# Altium schematic symbol library HD2.SchLib: 89 symbols
Pins are listed as number, name and electrical type; pins without a type are passive.

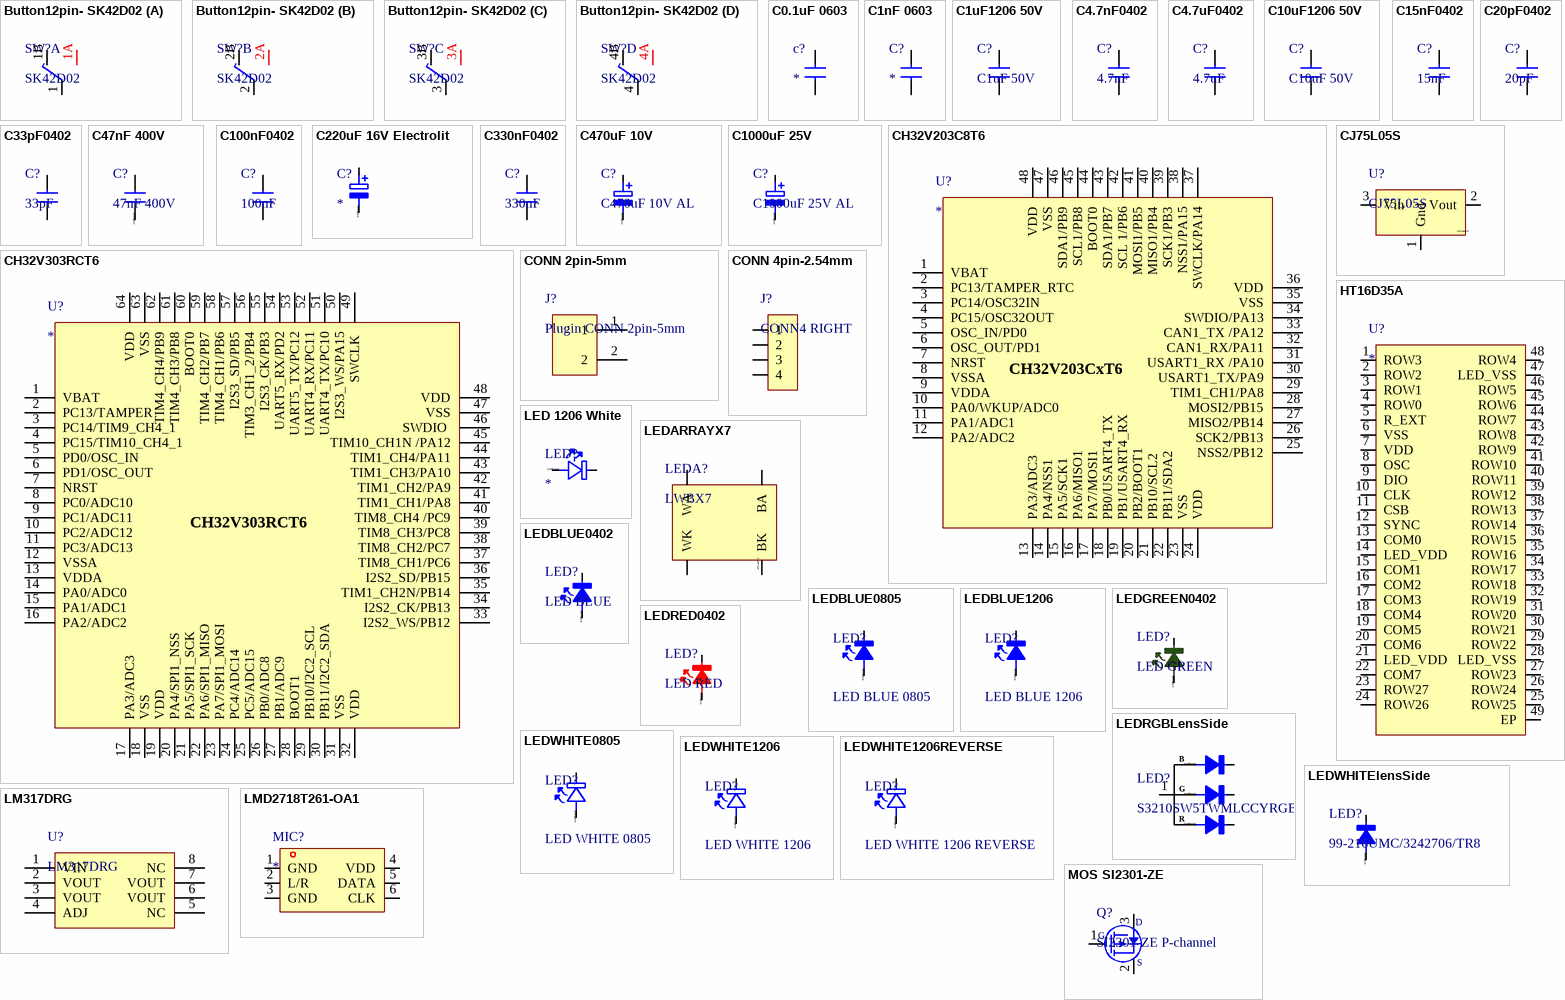
[diagram p0: symbols Button12pin- SK42D02 to MOS SI2301-ZE]

## Button12pin- SK42D02
designator SW?, comment SK42D02
footprint Button12PIN
part A pins: 1, 1A, 1B
part B pins: 2, 2A, 2B
part C pins: 3, 3A, 3B
part D pins: 4, 4A, 4B

## C0.1uF 0603
designator c?
footprint 0603
pins: 1, 2

## C1nF 0603
designator C?
MFAC: 0603B102K500NT; DES: 50V 1nF X7R ±10% 0603 Multilayer Ceramic Capacitors MLCC - SMD/SMT ROHS; JLC: C44369
footprint 0603
pins: 1, 2

## C1uF1206 50V
designator C?, comment C1uF 50V
MFAC: CL31B105KBHNNNE; DES: 50V 1uF X7R ±10% 1206 Multilayer Ceramic Capacitors MLCC - SMD/SMT ROHS Copy; JLC: C1848
footprint 1206
pins: 1, 2

## C4.7nF0402
designator C?, comment 4.7nF
MFAC: 0402B472K500CT; DES: 50V 4.7nF X7R ±10% 0402 Multilayer Ceramic Capacitors MLCC - SMD/SMT ROHS Copy; JLC: C237221
footprint 0402
pins: 1, 2

## C4.7uF0402
designator C?, comment 4.7uF
MFAC: 0402X475K6R3NT; DES: 6.3V 4.7uF X5R ±10% 0402 Multilayer Ceramic Capacitors MLCC - SMD/SMT ROHS; JLC: C157354
footprint 0402
pins: 1, 2

## C10uF1206 50V
designator C?, comment C10uF 50V
MFAC: CL31A106KBHNNNE; DES: 50V 10uF X5R ±10% 1206 Multilayer Ceramic Capacitors MLCC - SMD/SMT ROHS; JLC: C13585
footprint 1206
pins: 1, 2

## C15nF0402
designator C?, comment 15nF
MFAC: CC0402KRX7R9BB153; DES: 50V 15nF X7R ±10% 0402 Multilayer Ceramic Capacitors MLCC - SMD/SMT ROHS; JLC: C114405
footprint 0402
pins: 1, 2

## C20pF0402
designator C?, comment 20pF
MFAC: 0402CG200J500NT; DES: 50V 20pF C0G ±5% 0402 Multilayer Ceramic Capacitors MLCC - SMD/SMT ROHS; JLC: C1554
footprint 0402
pins: 1, 2

## C33pF0402
designator C?, comment 33pF
MFAC: 0402CG330J500NT; DES: 50V 33pF C0G ±5% 0402 Multilayer Ceramic Capacitors MLCC - SMD/SMT ROHS; JLC: C1562
footprint 0402
pins: 1, 2

## C47nF 400V
designator C?, comment 47nF 400V
MFAC: MPP473J2G10NN22610; JLC: C506852
footprint CAP_TH_10mm
pins: 1, 2
text: @DesignPCB

## C100nF0402
designator C?, comment 100nF
MFAC: CL05B104KO5NNNC; DES: 16V 100nF X7R ±10% 0402 Multilayer Ceramic Capacitors MLCC - SMD/SMT ROHS Copy; JLC: C1525
footprint 0402
pins: 1, 2

## C220uF 16V Electrolit
designator C?
MFAC: RVT1C221M0605; JLC: C2977551
footprint CAP-SMD_BD6.3-L6.6-W6.6-LS7.2-R-RD
pins: 1, 2
text: @DesignPCB

## C330nF0402
designator C?, comment 330nF
MFAC: 0402B334K160NT; DES: 16V 330nF X7R ±10% 0402  Multilayer Ceramic Capacitors MLCC - SMD/SMT ROHS; JLC: C301942
footprint 0402
pins: 1, 2

## C470uF 10V
designator C?, comment C470uF 10V AL
MFAC: 126RV0010; DES: 470uF 16V 175mA@120Hz ±20% SMD,D6.3xL7.7mm  Aluminum Electrolytic Capacitors - SMD ROHS; JLC: C5354997
footprint SMD,D6.3xL7.7mm
pins: 1, 2
text: @DesignPCB

## C1000uF 25V
designator C?, comment C1000uF 25V AL
MFAC: 25YXJ1000M10X20; DES: 1000uF 25V 46mΩ@100kHz ±20% 1.4A@100kHz Plugin,D10xL20mm Aluminum Electrolytic Capacitors - Leaded ROHS; JLC: C88720
footprint Plugin,D10xL20mm
pins: 1, 2
text: @DesignPCB

## CH32V203C8T6
designator U?
MAFC: CH32V203C8T6; DES: 64KB 20KB FLASH RISC-V 144MHz LQFP-48(7x7) Microcontrollers (MCU/MPU/SOC) ROHS; JLC: C3001172
footprint LQFP_48_CH32
pins: 1 VBAT, 2 PC13/TAMPER_RTC, 3 PC14/OSC32IN, 4 PC15/OSC32OUT, 5 OSC_IN/PD0, 6 OSC_OUT/PD1, 7 NRST, 8 VSSA, 9 VDDA, 10 PA0/WKUP/ADC0, 11 PA1/ADC1, 12 PA2/ADC2, 13 PA3/ADC3, 14 PA4/NSS1, 15 PA5/SCK1, 16 PA6/MISO1, 17 PA7/MOSI1, 18 PB0/USART4_TX, 19 PB1/USART4_RX , 20 PB2/BOOT1, 21 PB10/SCL2, 22 PB11/SDA2, 23 VSS, 24 VDD, 25 NSS2/PB12, 26 SCK2/PB13, 27 MISO2/PB14, 28 MOSI2/PB15, 29 TIM1_CH1/PA8, 30 USART1_TX/PA9, 31 USART1_RX /PA10, 32 CAN1_RX/PA11, 33 CAN1_TX /PA12, 34 SWDIO/PA13, 35 VSS, 36 VDD, 37 SWCLK/PA14, 38 NSS1/PA15, 39 SCK1/PB3, 40 MISO1/PB4, 41 MOSI1/PB5, 42 SCL 1/PB6, 43 SDA1/PB7, 44 BOOT0, 45 SCL1/PB8, 46 SDA1/PB9, 47 VSS, 48 VDD
text: CH32V203CxT6

## CH32V303RCT6
designator U?
MFAC: CH32V303RCT6; DES: LQFP-64(10x10); JLC: C5456849
footprint LQFP-64
pins: 1 VBAT, 2 PC13/TAMPER, 3 PC14/TIM9_CH4_1, 4 PC15/TIM10_CH4_1, 5 PD0/OSC_IN, 6 PD1/OSC_OUT, 7 NRST, 8 PC0/ADC10, 9 PC1/ADC11 , 10 PC2/ADC12, 11 PC3/ADC13, 12 VSSA, 13 VDDA, 14 PA0/ADC0, 15 PA1/ADC1, 16 PA2/ADC2, 17 PA3/ADC3, 18 VSS, 19 VDD, 20 PA4/SPI1_NSS , 21 PA5/SPI1_SCK, 22 PA6/SPI1_MISO, 23 PA7/SPI1_MOSI, 24 PC4/ADC14, 25 PC5/ADC15, 26 PB0/ADC8, 27 PB1/ADC9, 28 BOOT1, 29 PB10/I2C2_SCL, 30 PB11/I2C2_SDA, 31 VSS, 32 VDD, 33 I2S2_WS/PB12, 34 I2S2_CK/PB13, 35 TIM1_CH2N/PB14, 36 I2S2_SD/PB15, 37 TIM8_CH1/PC6, 38 TIM8_CH2/PC7, 39 TIM8_CH3/PC8, 40 TIM8_CH4 /PC9, 41 TIM1_CH1/PA8, 42 TIM1_CH2/PA9, 43 TIM1_CH3/PA10, 44 TIM1_CH4/PA11, 45 TIM10_CH1N /PA12, 46 SWDIO , 47 VSS, 48 VDD, 49 SWCLK , 50 I2S3_WS/PA15, 51 UART4_TX/PC10, 52 UART4_RX/PC11, 53 UART5_TX/PC12, 54 UART5_RX/PD2, 55 I2S3_CK/PB3, 56 TIM3_CH1_2/PB4, 57 I2S3_SD/PB5, 58 TIM4_CH1/PB6, 59 TIM4_CH2/PB7, 60 BOOT0, 61 TIM4_CH3/PB8, 62 TIM4_CH4/PB9, 63 VSS, 64 VDD

## CJ75L05S
designator U?
Low Drop Regulator 5V; JLC: C3031865; MFAC: CJ75L05S
footprint SOT-23
pins: 1 Gnd, 2 Vout, 3 Vin
text: @DesignPCB

## CONN 2pin-5mm
designator J?, comment Plugin CONN 2pin-5mm
MFAC: WJ126V-5.0-2P; DES: 1x2P 18A -40℃~+105℃ 250V Green 14~26 Direct Insert 5mm 2.5 1 2 Plugin,P=5mm Screw Terminal Blocks ROHS; JLC: C8404
footprint CONN 2pin-5mm PLUGIN
pins: 1, 2

## CONN 4pin-2.54mm
designator J?, comment CONN4 RIGHT
MFAC: 2.54-1*4P; DES: 2.54mm Single Row 4P Bend insert 1x4P Push-Pull,P=2.54mm Female Headers ROHS Copy; JLC: C88278
footprint CONN4-2.54
pins: 1, 2, 3, 4

## HT16D35A
designator U?
MFAC: HT16D35A; DES: LQFP-48-EP(7x7) LED Drivers ROHS; JLC: C110929
footprint LQFP_48_HT16D
pins: 1 ROW3, 2 ROW2, 3 ROW1, 4 ROW0, 5 R_EXT, 6 VSS, 7 VDD, 8 OSC, 9 DIO, 10 CLK, 11 CSB, 12 SYNC, 13 COM0, 14 LED_VDD, 15 COM1, 16 COM2, 17 COM3, 18 COM4, 19 COM5, 20 COM6, 21 LED_VDD, 22 COM7, 23 ROW27, 24 ROW26, 25 ROW25, 26 ROW24, 27 ROW23, 28 LED_VSS, 29 ROW22, 30 ROW21, 31 ROW20, 32 ROW19, 33 ROW18, 34 ROW17, 35 ROW16, 36 ROW15, 37 ROW14, 38 ROW13, 39 ROW12, 40 ROW11, 41 ROW10, 42 ROW9, 43 ROW8, 44 ROW7, 45 ROW6, 46 ROW5, 47 LED_VSS, 48 ROW4, 49 EP

## LED 1206 White
designator LED?
JLC: C965828
footprint LED 1206 White
pins: A, K
text: @DesignPCB

## LEDARRAYX7
designator LEDA?, comment LWBX7
footprint LWBX7L
pins: BA, BK, WA, WK
text: @DesignPCB

## LEDBLUE0402
designator LED?, comment LED BLUE
MFAC: 16-213/BHC-AN1P2/3T; DES: Blue 0402 LED Indication - Discrete ROHS; JLC: C131223
footprint LED0402
pins: A, K
text: @DesignPCB

## LEDBLUE0805
designator LED?, comment LED BLUE 0805
MFAC: 17-21/BHC-AL2M2TY/3T; DES: Blue 0805 LED Indication - Discrete ROHS; JLC: C94613
footprint LED0805
pins: A, K
text: @DesignPCB

## LEDBLUE1206
designator LED?, comment LED BLUE 1206
MFAC: LTST-C150TBKT; DES: 20mA 104mcd Colorless transparent lens -20℃~+80℃ 465nm~475nm Blue 130° 76mW 3.3V 1206 LED Indication - Discrete ROHS; JLC: C125088
footprint LED1206
pins: A, K
text: @DesignPCB

## LEDGREEN0402
designator LED?, comment LED GREEN
MFAC: YLED0402G; DES: 0402  LED Indication - Discrete ROHS; JLC: C20608784
footprint LED0402
pins: A, K
text: @DesignPCB

## LEDRED0402
designator LED?, comment LED RED
MFAC: 16-213SDRC/S530-A3/TR8; DES: 20mA 43mcd Colorless transparent lens 639nm Red 120° 2V 0402 LED Indication - Discrete ROHS; JLC: C71911
footprint LED0402
pins: A, K
text: @DesignPCB

## LEDRGBLensSide
designator LED?, comment S3210SW5TWMLCCYRGB
MFAC: TJ-S3210SW5TWMLCCYRGB-A5; DES: SMD,1.5x3.2mm RGB LEDs ROHS; JLC: C601679
footprint LEDRGBLENSSIDE
pins: 1, 2, 3, 4, A, A, A
text: B; @DesignPCB; G; R

## LEDWHITE0805
designator LED?, comment LED WHITE 0805
MFAC: KT-0805W; DES: 0805 LED Indication - Discrete ROHS; JLC: C34499
footprint LED0805 (Footprint not found)
pins: A, K
text: @DesignPCB

## LEDWHITE1206
designator LED?, comment LED WHITE 1206
MFAC: 25-21/T1D-AP2R1HY/2A; DES: White 1206 LED Indication - Discrete ROHS; JLC: C83915
footprint LED1206 (Footprint not found)
pins: A, K
text: @DesignPCB

## LEDWHITE1206REVERSE
designator LED?, comment LED WHITE 1206 REVERSE
MFAC: XL-3216UWC-FB; DES: 2mA 12000K~27000K Yellow lens Reverse Mount White 120° 75mW 2.6V~3V 1206 LED Indication - Discrete ROHS; JLC: C3646935
footprint LED1206REVERSMOUNT (Footprint not found)
pins: A, K
text: @DesignPCB

## LEDWHITElensSide
designator LED?, comment 99-216UMC/3242706/TR8
DES: 20mA Colorless transparent lens Side sticker -40℃~+85℃ White 110° 110mW SMD,1.2x3.8mm LED Indication - Discrete ROHS; JLC: C605462; MFAC: 99-216UMC/3242706/TR8
footprint LEDWHITELENSSIDE
pins: 1, 2
text: @DesignPCB

## LM317DRG
designator U?
DES: SOP-8  Voltage Regulators - Linear, Low Drop Out (LDO) Regulators ROHS; MFAC: LM317DRG; JLC: C5145292
footprint SOP-8 (Footprint not found)
pins: 1 VIN, 2 VOUT, 3 VOUT, 4 ADJ, 5 NC, 6 VOUT, 7 VOUT, 8 NC

## LMD2718T261-OA1
designator MIC?
MAFC: LMD2718T261-OA1; DES: Omni-directional -26dB 58dB SMD-6P,2.8x1.9mm MEMS Microphones ROHS; JLC: C5373237
footprint MIC-SMD_6P
pins: 1 GND, 2 L/R, 3 GND, 4 VDD, 5 DATA, 6 CLK

## MOS SI2301-ZE
designator Q?, comment SI2301-ZE P-channel
DES: 20V 2.3A 700mW 126mΩ@4.5V 1V@250uA 1PCSPChannel SOT-23  MOSFETs ROHS; JLC: C5261052; MFAC: SI2301-ZE
footprint SOT-23 MOS
pins: 1, 2, 3
text: D; G; S

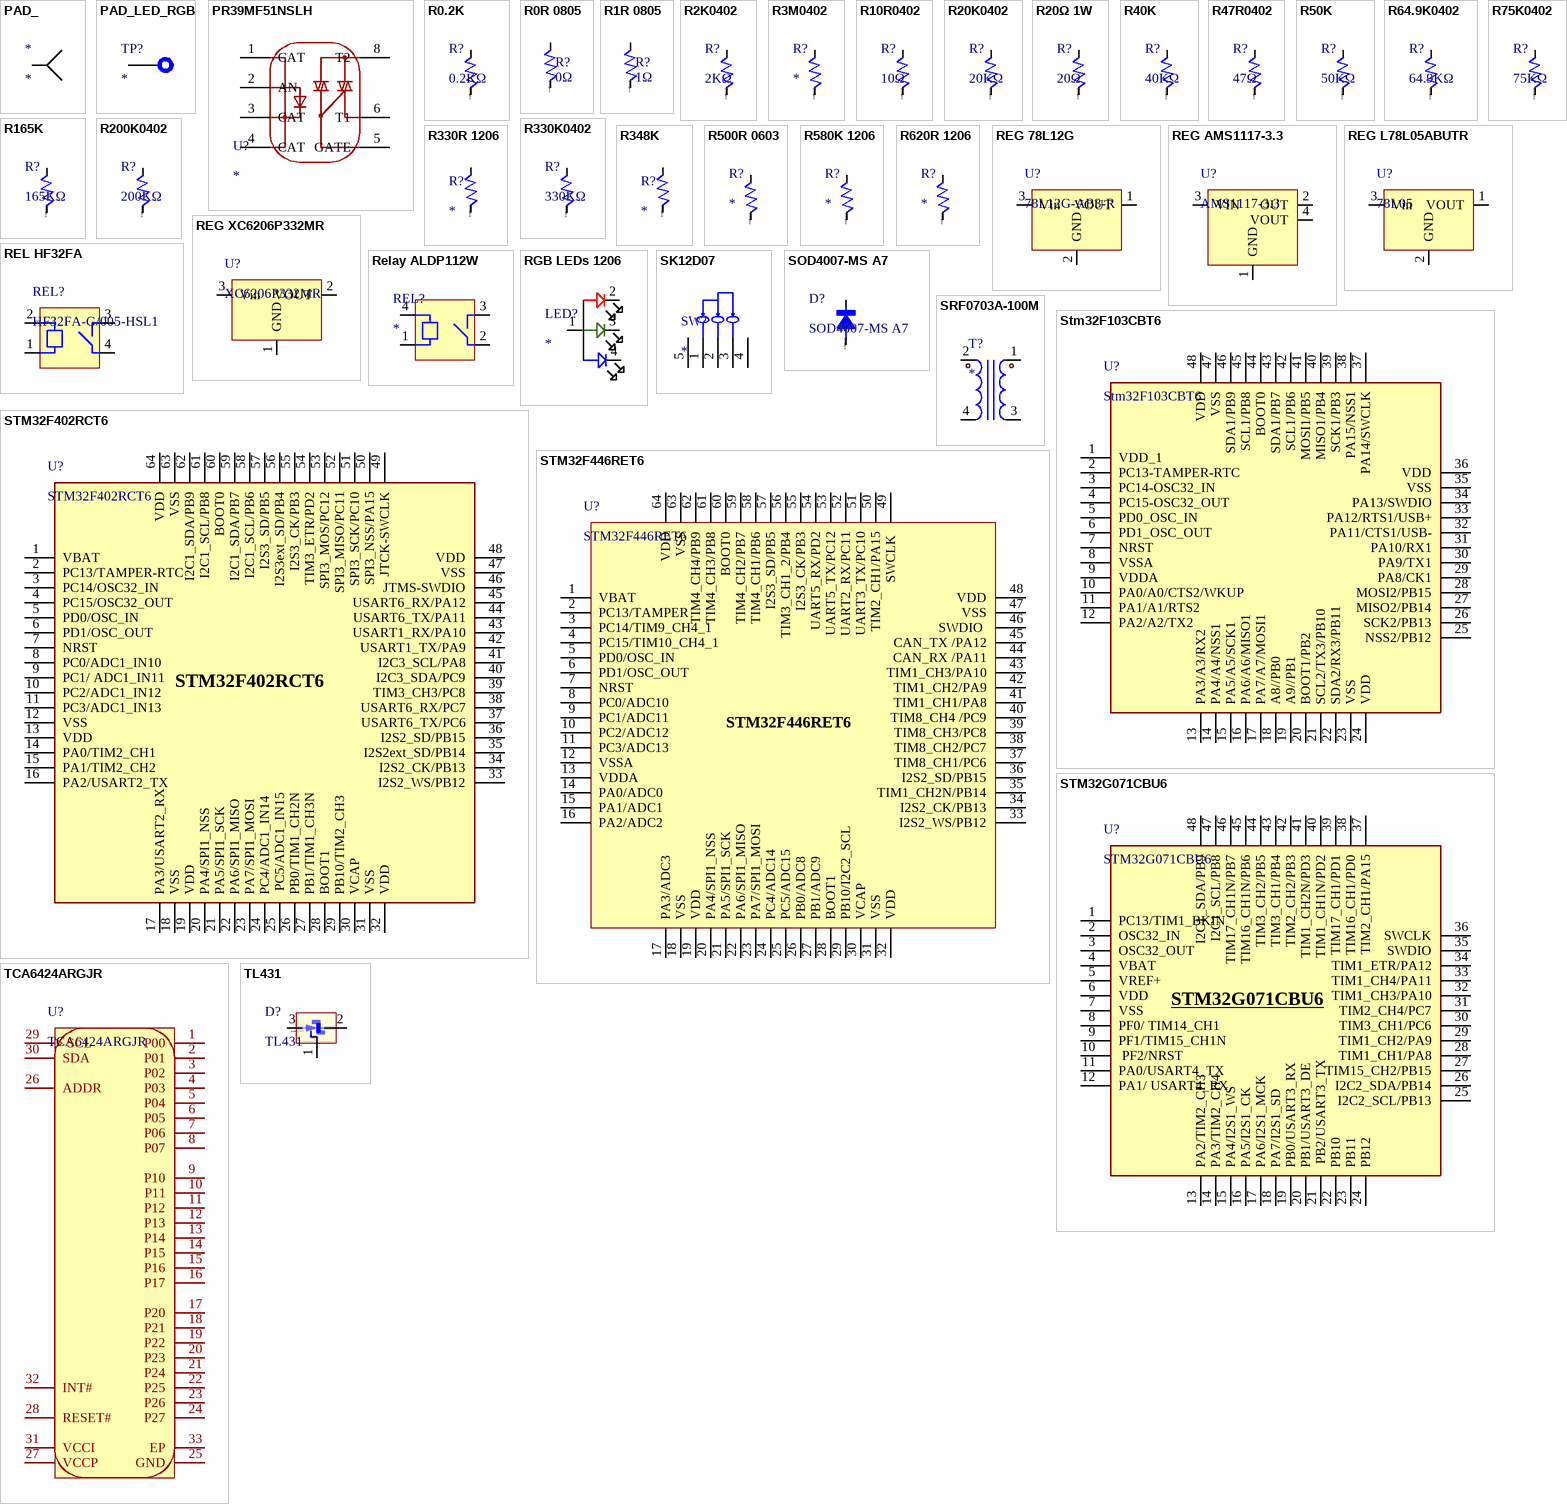
[diagram p1: symbols PAD_ to TL431]

## PAD_
designator *
footprint PAD
pins: 1

## PAD_LED_RGB
designator TP?
footprint PAD-Touch20X20 Vertical
pins: 1

## PR39MF51NSLH
designator U?
MFAC: PR39MF51NSLH; JLC: C390736
footprint DIP-8
pins: 1 CAT, 2 AN, 3 CAT, 4 CAT, 5 GATE, 6 T1, 8 T2

## R0.2K
designator R?, comment 0.2KΩ
MAFC: RT0603BRD0740KL; DES: 100mW Thin Film Resistor ±25ppm/℃ ±0.1% 40kΩ 0603  Chip Resistor - Surface Mount ROHS; JLC: C861392
footprint 0603
pins: 1, 2
text: @DesignPCB

## R0R 0805
designator R?, comment 0Ω
MFAC: 0805W8J0000T5E; DES: 125mW Thick Film Resistors 150V ±5% 0Ω 0805 Chip Resistor - Surface Mount ROHS; JLC: C25275
footprint 0805
pins: 1, 2
text: @DesignPCB

## R1R 0805
designator R?, comment 1Ω
MFAC: 0805W8J010JT5E; DES: 125mW Thick Film Resistors 150V ±5% ±200ppm/℃ 1Ω 0805 Chip Resistor - Surface Mount ROHS; JLC: C25288
footprint 0805
pins: 1, 2
text: @DesignPCB

## R2K0402
designator R?, comment 2KΩ
MFAC: 0402WGF2001TCE; DES: 62.5mW Thick Film Resistors 50V ±100ppm/℃ ±1% 2kΩ 0402 Chip Resistor - Surface Mount ROHS; JLC: C4109
footprint 0402
pins: 1, 2
text: @DesignPCB

## R3M0402
designator R?
MFAC: 0402WGF3004TCE; JLC: C56582
footprint 0402
pins: 1, 2
text: @DesignPCB

## R10R0402
designator R?, comment 10Ω
MFAC: 0402WGF100JTCE; DES: 62.5mW Thick Film Resistors 50V ±1% ±200ppm/℃ 10Ω 0402 Chip Resistor - Surface Mount ROHS; JLC: C25077
footprint 0402
pins: 1, 2
text: @DesignPCB

## R20K0402
designator R?, comment 20KΩ
MAFC: SG73S1ERTTP203J; DES: ±5% 20kΩ 0402 Chip Resistor - Surface Mount ROHS; JLC: C7360107
footprint 0402
pins: 1, 2
text: @DesignPCB

## R20Ω 1W
designator R?, comment 20Ω
R20Ω 1W; MFAC: 25121WF200JT4E; JLC: C41950; Parameter 1: *
footprint 2512
pins: 1, 2
text: @DesignPCB

## R40K
designator R?, comment 40KΩ
MAFC: RT0603BRD0740KL; DES: 100mW Thin Film Resistor ±25ppm/℃ ±0.1% 40kΩ 0603  Chip Resistor - Surface Mount ROHS; JLC: C861392
footprint 0603
pins: 1, 2
text: @DesignPCB

## R47R0402
designator R?, comment 47Ω
MFAC: 0402WGF470JTCE; DES: 62.5mW Thick Film Resistors 50V ±1% ±200ppm/℃ 47Ω 0402 Chip Resistor - Surface Mount ROHS; JLC: C25118
footprint 0402
pins: 1, 2
text: @DesignPCB

## R50K
designator R?, comment 50KΩ
MAFC: RT0603BRD0750KL; DES: 100mW Thin Film Resistor ±0.1% ±25ppm/℃ 50kΩ 0603 Chip Resistor - Surface Mount ROHS; JLC: C861451
footprint 0603
pins: 1, 2
text: @DesignPCB

## R64.9K0402
designator R?, comment 64.9KΩ
MFAC: CR206492F; DES: 62.5mW Thick Film Resistors ±100ppm/℃ ±1% 64.9kΩ 0402 Chip Resistor - Surface Mount ROHS; JLC: C4108218
footprint 0402
pins: 1, 2
text: @DesignPCB

## R75K0402
designator R?, comment 75KΩ
MFAC: CR0402J75K0Q10Z; DES: 63mW Thick Film Resistors ±100ppm/℃ ±5% 75kΩ 0402  Chip Resistor - Surface Mount ROHS; JLC: C881256
footprint 0402
pins: 1, 2
text: @DesignPCB

## R165K
designator R?, comment 165KΩ
MAFC: 0603WAF1653T5E; DES: 100mW Thick Film Resistors 75V ±100ppm/℃ ±1% 165kΩ 0603 Chip Resistor - Surface Mount ROHS; JLC: C22816
footprint 0603
pins: 1, 2
text: @DesignPCB

## R200K0402
designator R?, comment 200KΩ
MFAC: 0402WGF2003TCE; DES: 62.5mW Thick Film Resistors 50V ±100ppm/℃ ±1% 200kΩ 0402 Chip Resistor - Surface Mount ROHS; JLC: C25764
footprint 0402
pins: 1, 2
text: @DesignPCB

## R330K0402
designator R?, comment 330KΩ
MFAC: 0402WGF3303TCE; DES: 62.5mW Thick Film Resistors ±100ppm/℃ ±1% 64.9kΩ 0402 Chip Resistor - Surface Mount ROHS; JLC: C4108218
footprint 0402
pins: 1, 2
text: @DesignPCB

## R330R 1206
designator R?
MFAC: 1206W4J0331T5E; JLC: C25374
footprint 1206
pins: 1, 2
text: @DesignPCB

## R348K
designator R?
MFAC: 0603WAF3483T5E; JLC: C23006
footprint 0603
pins: 1, 2
text: @DesignPCB

## R500R 0603
designator R?
footprint 0603
pins: 1, 2
text: @DesignPCB

## R580K 1206
designator R?
MFAC: FRC1206J584 TS; JLC: C2933790
footprint 1206
pins: 1, 2
text: @DesignPCB

## R620R 1206
designator R?
MFAC: 1206W4J0621T5E; JLC: C25391
footprint 1206
pins: 1, 2
text: @DesignPCB

## REG 78L12G
designator U?, comment 78L12G-AB3-R
DES: 100mA Fixed 12V Positive electrode 35V SOT-89-3 Voltage Regulators - Linear, Low Drop Out (LDO) Regulators ROHS; MFAC: 78L12G-AB3-R; JLC: C75501
footprint SOT-89
pins: 1 VOUT, 2 GND, 3 Vin

## REG AMS1117-3.3
designator U?, comment AMS1117-3.3
DES: 1.6A Fixed 3.3V 18V SOT-223 Voltage Regulators - Linear, Low Drop Out (LDO) Regulators ROHS; MFAC: AMS1117-3.3; JLC: C18212698
footprint SOT-223
pins: 1 GND, 2 OUT, 3 VIN, 4 VOUT

## REG L78L05ABUTR
designator U?, comment 78L05
MFAC: L78L05ABUTR; DES: 100mA Fixed 12V Positive electrode 35V SOT-89-3 Voltage Regulators - Linear, Low Drop Out (LDO) Regulators ROHS; JLC: C42738
footprint SOT-89
pins: 1 VOUT, 2 GND, 3 Vin

## REG XC6206P332MR
designator U?, comment XC6206P332MR
DES: 40dB@(1kHz) 250mA Fixed 3.3V Positive electrode 8V SOT-23 Voltage Regulators - Linear, Low Drop Out (LDO) Regulators ROHS; MFAC: XC6206P332MR; JLC: C347376
footprint REG SOT-23
pins: 1 GND, 2 VOUT, 3 Vin

## REL HF32FA
designator REL?, comment HF32FA-G/005-HSL1
DES: *5V 10A@250VAC 250V@AC 10A One Normally Open: 1A (SPST-NO) Plugin,10.1x17.6mm Power Relays ROHS; MFAC: HF32FA-G/005-HSL1; JLC: C91370
footprint Plugin,10.1x17.6mm
pins: 1, 2, 3, 4

## Relay ALDP112W
designator REL?
JLC: C115718
footprint Relay ALDP112W
pins: 1, 2, 3, 4

## RGB LEDs 1206
designator LED?
MFAC: A-SP1513R6GHB1C-A01-2A; DES: 1206 RGB LEDs ROHS; JLC: C5355463
footprint 1206 RGB LEDs
pins: 1, 2, 3, 4

## SK12D07
designator SW?
footprint SK12D07
pins: 1, 2, 3, 4, 5

## SOD4007-MS A7
designator D?
DES: Independent Type 1A 1kV SOD-123FL Diodes - General Purpose ROHS; JLC: C3008061; MFAC: SOD4007-MS
footprint SOD-123-F
pins: 1, 2
text: @DesignPCB

## SRF0703A-100M
designator T?
MFAC: SRF0703A-100M; JLC: C6235010
footprint SRF0703A-100M
pins: 1, 2, 3, 4

## Stm32F103CBT6
designator U?
DES: 128KB 2V~3.6V ARM-M3 20KB 72MHz FLASH 37 LQFP-48(7x7) Microcontrollers (MCU/MPU/SOC) ROHS; MFAC: STMicroelectronics; JLC: C8304
footprint LQFP-48_L7.0-W7.0-P0.50-LS9.0-BL
pins: 1 VDD_1, 2 PC13-TAMPER-RTC, 3 PC14-OSC32_IN, 4 PC15-OSC32_OUT, 5 PD0_OSC_IN, 6 PD1_OSC_OUT, 7 NRST, 8 VSSA, 9 VDDA, 10 PA0/A0/CTS2/WKUP, 11 PA1/A1/RTS2, 12 PA2/A2/TX2, 13 PA3/A3/RX2, 14 PA4/A4/NSS1, 15 PA5/A5/SCK1, 16 PA6/A6/MISO1, 17 PA7/A7/MOSI1, 18 A8//PB0, 19 A9//PB1, 20 BOOT1/PB2, 21 SCL2/TX3/PB10, 22 SDA2/RX3/PB11, 23 VSS, 24 VDD, 25 NSS2/PB12, 26 SCK2/PB13, 27 MISO2/PB14, 28 MOSI2/PB15, 29 PA8/CK1, 30 PA9/TX1, 31 PA10/RX1, 32 PA11/CTS1/USB-, 33 PA12/RTS1/USB+, 34 PA13/SWDIO, 35 VSS, 36 VDD, 37 PA14/SWCLK, 38 PA15/NSS1, 39 SCK1/PB3, 40 MISO1/PB4, 41 MOSI1/PB5, 42 SCL1/PB6, 43 SDA1/PB7, 44 BOOT0, 45 SCL1/PB8, 46 SDA1/PB9, 47 VSS, 48 VDD

## STM32F402RCT6
designator U?
DES: LQFP-64(10x10) Microcontrollers (MCU/MPU/SOC) ROHS; JLC: C2915304; MFAC: STM32F402RCT6
footprint LQFP-64
pins: 1 VBAT, 2 PC13/TAMPER-RTC, 3 PC14/OSC32_IN, 4 PC15/OSC32_OUT, 5 PD0/OSC_IN, 6 PD1/OSC_OUT, 7 NRST, 8 PC0/ADC1_IN10, 9 PC1/ ADC1_IN11, 10 PC2/ADC1_IN12, 11 PC3/ADC1_IN13, 12 VSS, 13 VDD, 14 PA0/TIM2_CH1, 15 PA1/TIM2_CH2, 16 PA2/USART2_TX, 17 PA3/USART2_RX, 18 VSS, 19 VDD, 20 PA4/SPI1_NSS, 21 PA5/SPI1_SCK, 22 PA6/SPI1_MISO, 23 PA7/SPI1_MOSI, 24 PC4/ADC1_IN14, 25  PC5/ADC1_IN15, 26 PB0/TIM1_CH2N, 27 PB1/TIM1_CH3N, 28 BOOT1, 29 PB10/TIM2_CH3, 30 VCAP, 31 VSS, 32 VDD, 33 I2S2_WS/PB12, 34 I2S2_CK/PB13, 35 I2S2ext_SD/PB14, 36 I2S2_SD/PB15, 37 USART6_TX/PC6, 38 USART6_RX/PC7, 39 TIM3_CH3/PC8, 40 I2C3_SDA/PC9, 41 I2C3_SCL/PA8, 42 USART1_TX/PA9, 43 USART1_RX/PA10, 44  USART6_TX/PA11, 45 USART6_RX/PA12, 46 JTMS-SWDIO, 47 VSS, 48 VDD, 49  JTCK-SWCLK, 50 SPI3_NSS/PA15, 51 SPI3_SCK/PC10, 52 SPI3_MISO/PC11, 53 SPI3_MOS/PC12, 54 TIM3_ETR/PD2, 55 I2S3_CK/PB3, 56 I2S3ext_SD/PB4, 57 I2S3_SD/PB5, 58 I2C1_SCL/PB6, 59 I2C1_SDA/PB7, 60 BOOT0, 61 I2C1_SCL/PB8, 62 I2C1_SDA/PB9, 63 VSS, 64 VDD

## STM32F446RET6
designator U?
DES: 512KB 1.7V~3.6V ARM-M4 128KB 180MHz FLASH 50 LQFP-64(10x10) Microcontrollers (MCU/MPU/SOC) ROHS; jlC: C69336; MFAC: STM32F446RET6
footprint LQFP-64
pins: 1 VBAT, 2 PC13/TAMPER, 3 PC14/TIM9_CH4_1, 4 PC15/TIM10_CH4_1, 5 PD0/OSC_IN, 6 PD1/OSC_OUT, 7 NRST, 8 PC0/ADC10, 9 PC1/ADC11 , 10 PC2/ADC12, 11 PC3/ADC13, 12 VSSA, 13 VDDA, 14 PA0/ADC0, 15 PA1/ADC1, 16 PA2/ADC2, 17 PA3/ADC3, 18 VSS, 19 VDD, 20 PA4/SPI1_NSS , 21 PA5/SPI1_SCK, 22 PA6/SPI1_MISO, 23 PA7/SPI1_MOSI, 24 PC4/ADC14, 25 PC5/ADC15, 26 PB0/ADC8, 27 PB1/ADC9, 28 BOOT1, 29 PB10/I2C2_SCL, 30 VCAP, 31 VSS, 32 VDD, 33 I2S2_WS/PB12, 34 I2S2_CK/PB13, 35 TIM1_CH2N/PB14, 36 I2S2_SD/PB15, 37 TIM8_CH1/PC6, 38 TIM8_CH2/PC7, 39 TIM8_CH3/PC8, 40 TIM8_CH4 /PC9, 41 TIM1_CH1/PA8, 42 TIM1_CH2/PA9, 43 TIM1_CH3/PA10, 44 CAN_RX /PA11, 45 CAN_TX /PA12, 46 SWDIO , 47 VSS, 48 VDD, 49 SWCLK , 50 TIM2_CH1/PA15, 51 UART3_TX/PC10, 52 UART2_RX/PC11, 53 UART5_TX/PC12, 54 UART5_RX/PD2, 55 I2S3_CK/PB3, 56 TIM3_CH1_2/PB4, 57 I2S3_SD/PB5, 58 TIM4_CH1/PB6, 59 TIM4_CH2/PB7, 60 BOOT0, 61 TIM4_CH3/PB8, 62 TIM4_CH4/PB9, 63 VSS, 64 VDD

## STM32G071CBU6
designator U?
DES: 128KB 1.71V~3.6V 36KB 64MHz FLASH 44 UFQFPN-48(7x7) Microcontrollers (MCU/MPU/SOC) ROHS; JLC: C529343; MFAC: STM32G071CBU6
footprint UFQFPN-48(7x7)
pins: 1 PC13/TIM1_BKIN, 2 OSC32_IN, 3 OSC32_OUT, 4 VBAT, 5 VREF+, 6 VDD, 7 VSS, 8 PF0/ TIM14_CH1, 9 PF1/TIM15_CH1N, 10  PF2/NRST, 11 PA0/USART4_TX, 12 PA1/ USART4_RX, 13 PA2/TIM2_CH3, 14 PA3/TIM2_CH4, 15 PA4/I2S1_WS, 16 PA5/I2S1_CK, 17 PA6/I2S1_MCK, 18 PA7/I2S1_SD, 19 PB0/USART3_RX, 20 PB1/USART3_DE, 21  PB2/USART3_TX, 22 PB10, 23 PB11, 24 PB12, 25 I2C2_SCL/PB13, 26 I2C2_SDA/PB14, 27 TIM15_CH2/PB15, 28 TIM1_CH1/PA8, 29 TIM1_CH2/PA9, 30 TIM3_CH1/PC6, 31 TIM2_CH4/PC7, 32 TIM1_CH3/PA10, 33 TIM1_CH4/PA11, 34 TIM1_ETR/PA12, 35 SWDIO, 36 SWCLK, 37 TIM2_CH1/PA15, 38 TIM16_CH1/PD0, 39 TIM17_CH1/PD1, 40 TIM1_CH1N/PD2, 41 TIM1_CH2N/PD3, 42  TIM2_CH2/PB3, 43 TIM3_CH1/PB4, 44 TIM3_CH2/PB5, 45 TIM16_CH1N/PB6, 46 TIM17_CH1N/PB7, 47  I2C1_SCL/PB8, 48 I2C1_SDA/PB9

## TCA6424ARGJR
designator U?
DES: 24 400kHz VQFN-32-EP(5x5) I/O Expanders ROHS; JLC: C80692; MFAC: TCA6424ARGJR
footprint VQFN-32
pins: 1 P00, 2 P01, 3 P02, 4 P03, 5 P04, 6 P05, 7 P06, 8 P07, 9 P10, 10 P11, 11 P12, 12 P13, 13 P14, 14 P15, 15 P16, 16 P17, 17 P20, 18 P21, 19 P22, 20 P23, 21 P24, 22 P25, 23 P26, 24 P27, 25 GND, 26 ADDR, 27 VCCP, 28 RESET#, 29 SCL, 30 SDA, 31 VCCI, 32 INT#, 33 EP

## TL431
designator D?
DES: 2.5V~36V 100mA Adjustable SOT-23 Voltage Reference ROHS; JLC: C181103; MFAC: TL431
footprint SOT-23 MOS
pins: 1 R, 2 K, 3 A
text: @DesignPCB

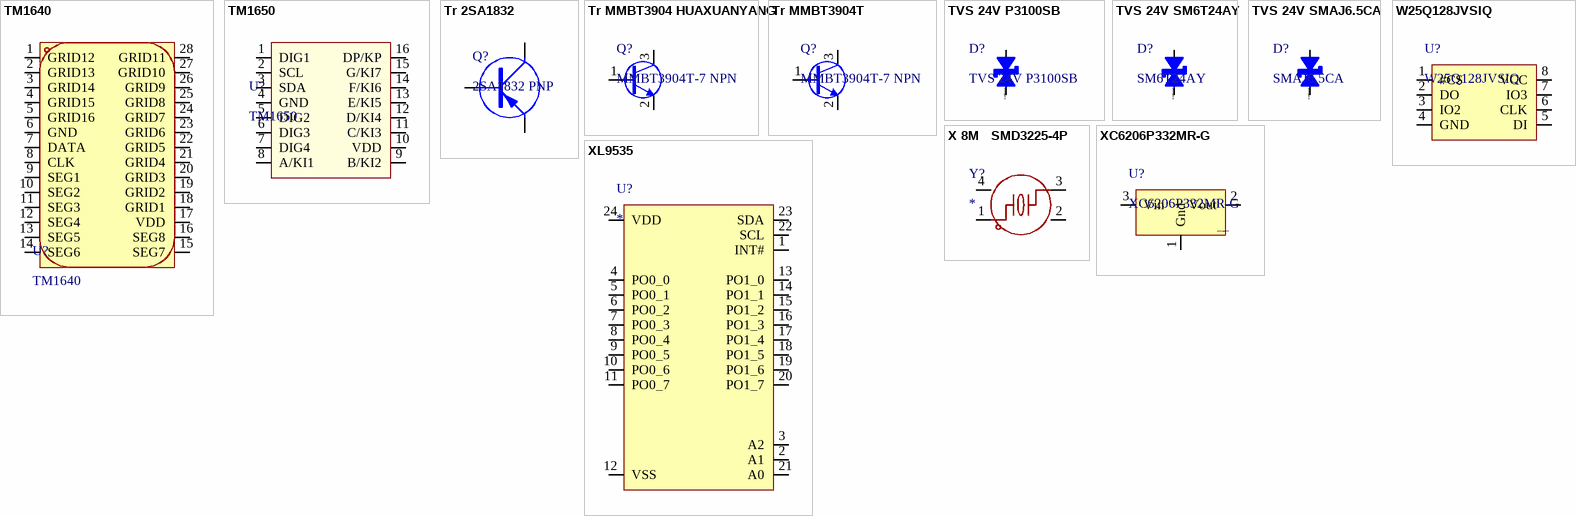
[diagram p2: symbols TM1640 to XL9535]

## TM1640
designator U?
MFAC: TM1640(TA2103 SSOP28); JLC: C20622205
footprint SSOP-28-150mil
pins: 1 GRID12, 2 GRID13, 3 GRID14, 4 GRID15, 5 GRID16, 6 GND, 7 DATA, 8 CLK, 9 SEG1, 10 SEG2, 11 SEG3, 12 SEG4, 13 SEG5, 14 SEG6, 15 SEG7, 16 SEG8, 17 VDD, 18 GRID1, 19 GRID2, 20 GRID3, 21 GRID4, 22 GRID5, 23 GRID6, 24 GRID7, 25 GRID8, 26 GRID9, 27 GRID10, 28 GRID11

## TM1650
designator U?
MFAC: TM1650-SOP16-TA1809C; JLC: C22374376
footprint SOP-16
pins: 1 DIG1, 2 SCL, 3 SDA, 4 GND, 5 DIG2, 6 DIG3, 7 DIG4, 8 A/KI1, 9 B/KI2, 10 VDD, 11 C/KI3, 12 D/KI4, 13 E/KI5, 14 F/KI6, 15 G/KI7, 16 DP/KP

## Tr 2SA1832
designator Q?, comment 2SA1832 PNP
MFAC: 2SA1832-Y,LF; DES: 50V 100mW 70@2mA,6V 150mA PNP SC-75(SOT-523) Bipolar (BJT) ROHS; JLC: C24014
footprint SOT-23
pins: B 1, C 3, E 2

## Tr MMBT3904 HUAXUANYANG
designator Q?, comment MMBT3904T-7 NPN
DES: 40V 150mW 100@10mA,1V 200mA NPN SOT-523 Bipolar (BJT) ROHS; MFAC: MMBT3904T-7; JLC: C239187
footprint SOT-523
pins: 1 B, 2 E, 3 C

## Tr MMBT3904T
designator Q?, comment MMBT3904T-7 NPN
DES: 40V 150mW 100@10mA,1V 200mA NPN SOT-523 Bipolar (BJT) ROHS; MFAC: MMBT3904T-7; JLC: C239187
footprint SOT-523
pins: 1 B, 2 E, 3 C

## TVS 24V P3100SB
designator D?
DES: SMB Semiconductor Discharge Tubes (TSS) ROHS; JLC: C7202985; MFAC: P3100SB
footprint SMB(DO-214AA)
pins: A, K
text: @DesignPCB

## TVS 24V SM6T24AY
designator D?, comment SM6T24AY
DES: 93A@8/20us 600W 42.8V 22.8V 20.5V SMB(DO-214AA)  ESD and Surge Protection (TVS/ESD) ROHS; MFAC: SM6T24AY; JLC: C1975780
footprint SMB(DO-214AA)
pins: A, K
text: @DesignPCB

## TVS 24V SMAJ6.5CA
designator D?, comment SMAJ6.5CA
DES: SMA TVS ROHS; JLC: C5381848; MFAC: SMAJ6.5CA
footprint SMB(DO-214AA)
pins: A, K
text: @DesignPCB

## W25Q128JVSIQ
designator U?
DES: 128Mbit SOIC-8-208mil NOR FLASH ROHS; JLC: C97521; MFAC: W25Q128JVSIQ
footprint SOIC_8
pins: 1 #CS, 2 DO, 3 IO2, 4 GND, 5 DI, 6 CLK, 7 IO3, 8 VCC

## X 8M   SMD3225-4P
designator Y?
MFAC: TAXM8M4RLBDDT2T; JLC: C720915
footprint X 8M SMD3225_4P
pins: 1, 2 GND, 3, 4 GND

## XC6206P332MR-G
designator U?
200mA Fixed 3.3V Positive electrode 6V SOT-23-3L Voltage Regulators - Linear, Low Drop Out (LDO) Regulators ROHS; JLC: C5446
footprint SOT-23
pins: 1 Gnd, 2 Vout, 3 Vin
text: @DesignPCB

## XL9535
designator U?
MFAC: XINLUDA; DES: TSSOP-24 I/O Expanders ROHS; JLC: C561273
footprint PCA9555PW,118 (16bit io expander)
pins: 1 INT#, 2 A1, 3 A2, 4 PO0_0, 5 PO0_1, 6 PO0_2, 7 PO0_3, 8 PO0_4, 9 PO0_5, 10 PO0_6, 11 PO0_7, 12 VSS, 13 PO1_0, 14 PO1_1, 15 PO1_2, 16 PO1_3, 17 PO1_4, 18 PO1_5, 19 PO1_6, 20 PO1_7, 21 A0, 22 SCL, 23 SDA, 24 VDD